# EAGLE library part UJ2-MIBH2-4-SMT-TR (library Micro USB)
Micro B Type 5 Pin Horizontal 30 µin Plating SMT USB Jack 2.0
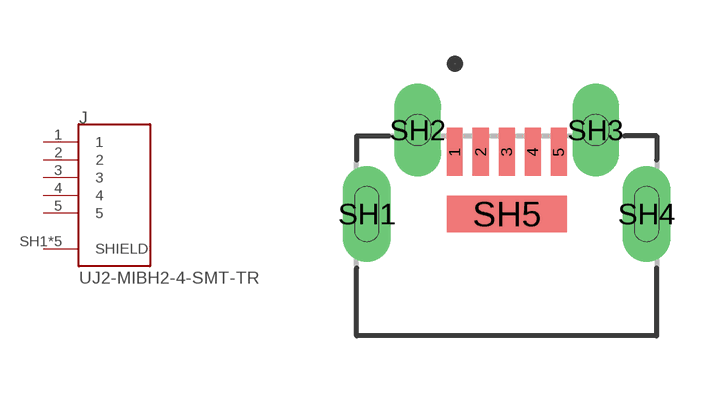
[diagram p0: symbol with the pads of CUI_UJ2-MIBH2-4-SMT-TR; footprint CUI_UJ2-MIBH2-4-SMT-TR]

Designator prefix J

## UJ2-MIBH2-4-SMT-TR (CUI_purchase_URL: https://www.cuidevices.com/product/interconnect/connectors/usb-connectors/uj2-mibh2-4-smt?utm_source=snapeda.com&utm_medium=referral&utm_campaign=snapedaBOM; Description: Micro B, USB 2.0, 1.8 A, Right Angle, Surface Mount _SMT_, USB Receptacle; Digi-Key_Part_Number: 102-4007-1-ND; Digi-Key_Purchase_URL: https://www.digikey.com/product-detail/en/cui-devices/UJ2-MIBH2-4-SMT-TR/102-4007-1-ND/6187929?utm_source=snapeda&utm_medium=aggregator&utm_campaign=symbol; MF: CUI Devices; MP: UJ2-MIBH2-4-SMT-TR; Package: None)  [CUI_UJ2-MIBH2-4-SMT-TR]
1  1  pas
2  2  pas
3  3  pas
4  4  pas
5  5  pas
SH1  SHIELD  pas
SH2  SHIELD  pas
SH3  SHIELD  pas
SH4  SHIELD  pas
SH5  SHIELD  pas

## Footprint CUI_UJ2-MIBH2-4-SMT-TR (pad centres in mm)
smd 0.4 x 1.2: 1 -1.3,2.1; 2 -0.65,2.1; 3 0,2.1; 4 0.65,2.1; 5 1.3,2.1
drill 0.6 pad 1.2 long: SH1 -3.5,0.55; SH4 3.5,0.55
drill 0.65 pad 1.1 long: SH2 -2.225,2.65; SH3 2.225,2.65
smd 3 x 0.9: SH5 0,0.55